# EAGLE library part MOLEX_501190-2017 (library rpoddar)
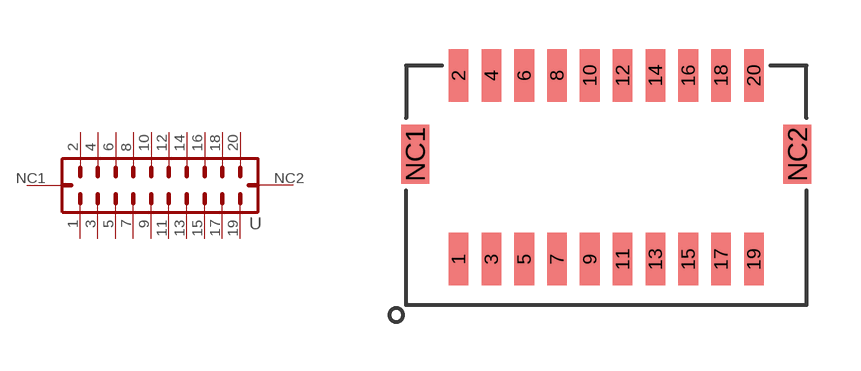
[diagram p2: symbol with the pads of MOLEX_501190-2017; footprint MOLEX_501190-2017]

Designator prefix -

## MOLEX_501190-2017  [MOLEX_501190-2017]
1  1  pas
2  2  pas
3  3  pas
4  4  pas
5  5  pas
6  6  pas
7  7  pas
8  8  pas
9  9  pas
10  10  pas
11  11  pas
12  12  pas
13  13  pas
14  14  pas
15  15  pas
16  16  pas
17  17  pas
18  18  pas
19  19  pas
20  20  pas
NC1  NC1  pas
NC2  NC2  pas

## Footprint MOLEX_501190-2017 (pad centres in mm)
smd 0.6 x 1.6: 1 -4.5,-2.8; 2 -4.5,2.8; 3 -3.5,-2.8; 4 -3.5,2.8; 5 -2.5,-2.8; 6 -2.5,2.8; 7 -1.5,-2.8; 8 -1.5,2.8; 9 -0.5,-2.8; 10 -0.5,2.8; 11 0.5,-2.8; 12 0.5,2.8; 13 1.5,-2.8; 14 1.5,2.8; 15 2.5,-2.8; 16 2.5,2.8; 17 3.5,-2.8; 18 3.5,2.8; 19 4.5,-2.8; 20 4.5,2.8
smd 0.85 x 1.8: NC1 -5.825,0.4; NC2 5.825,0.4